# Altium integrated library ON Semi Signal Management Modems & Transceivers.IntLib: 97 symbols (part 5 of 5)
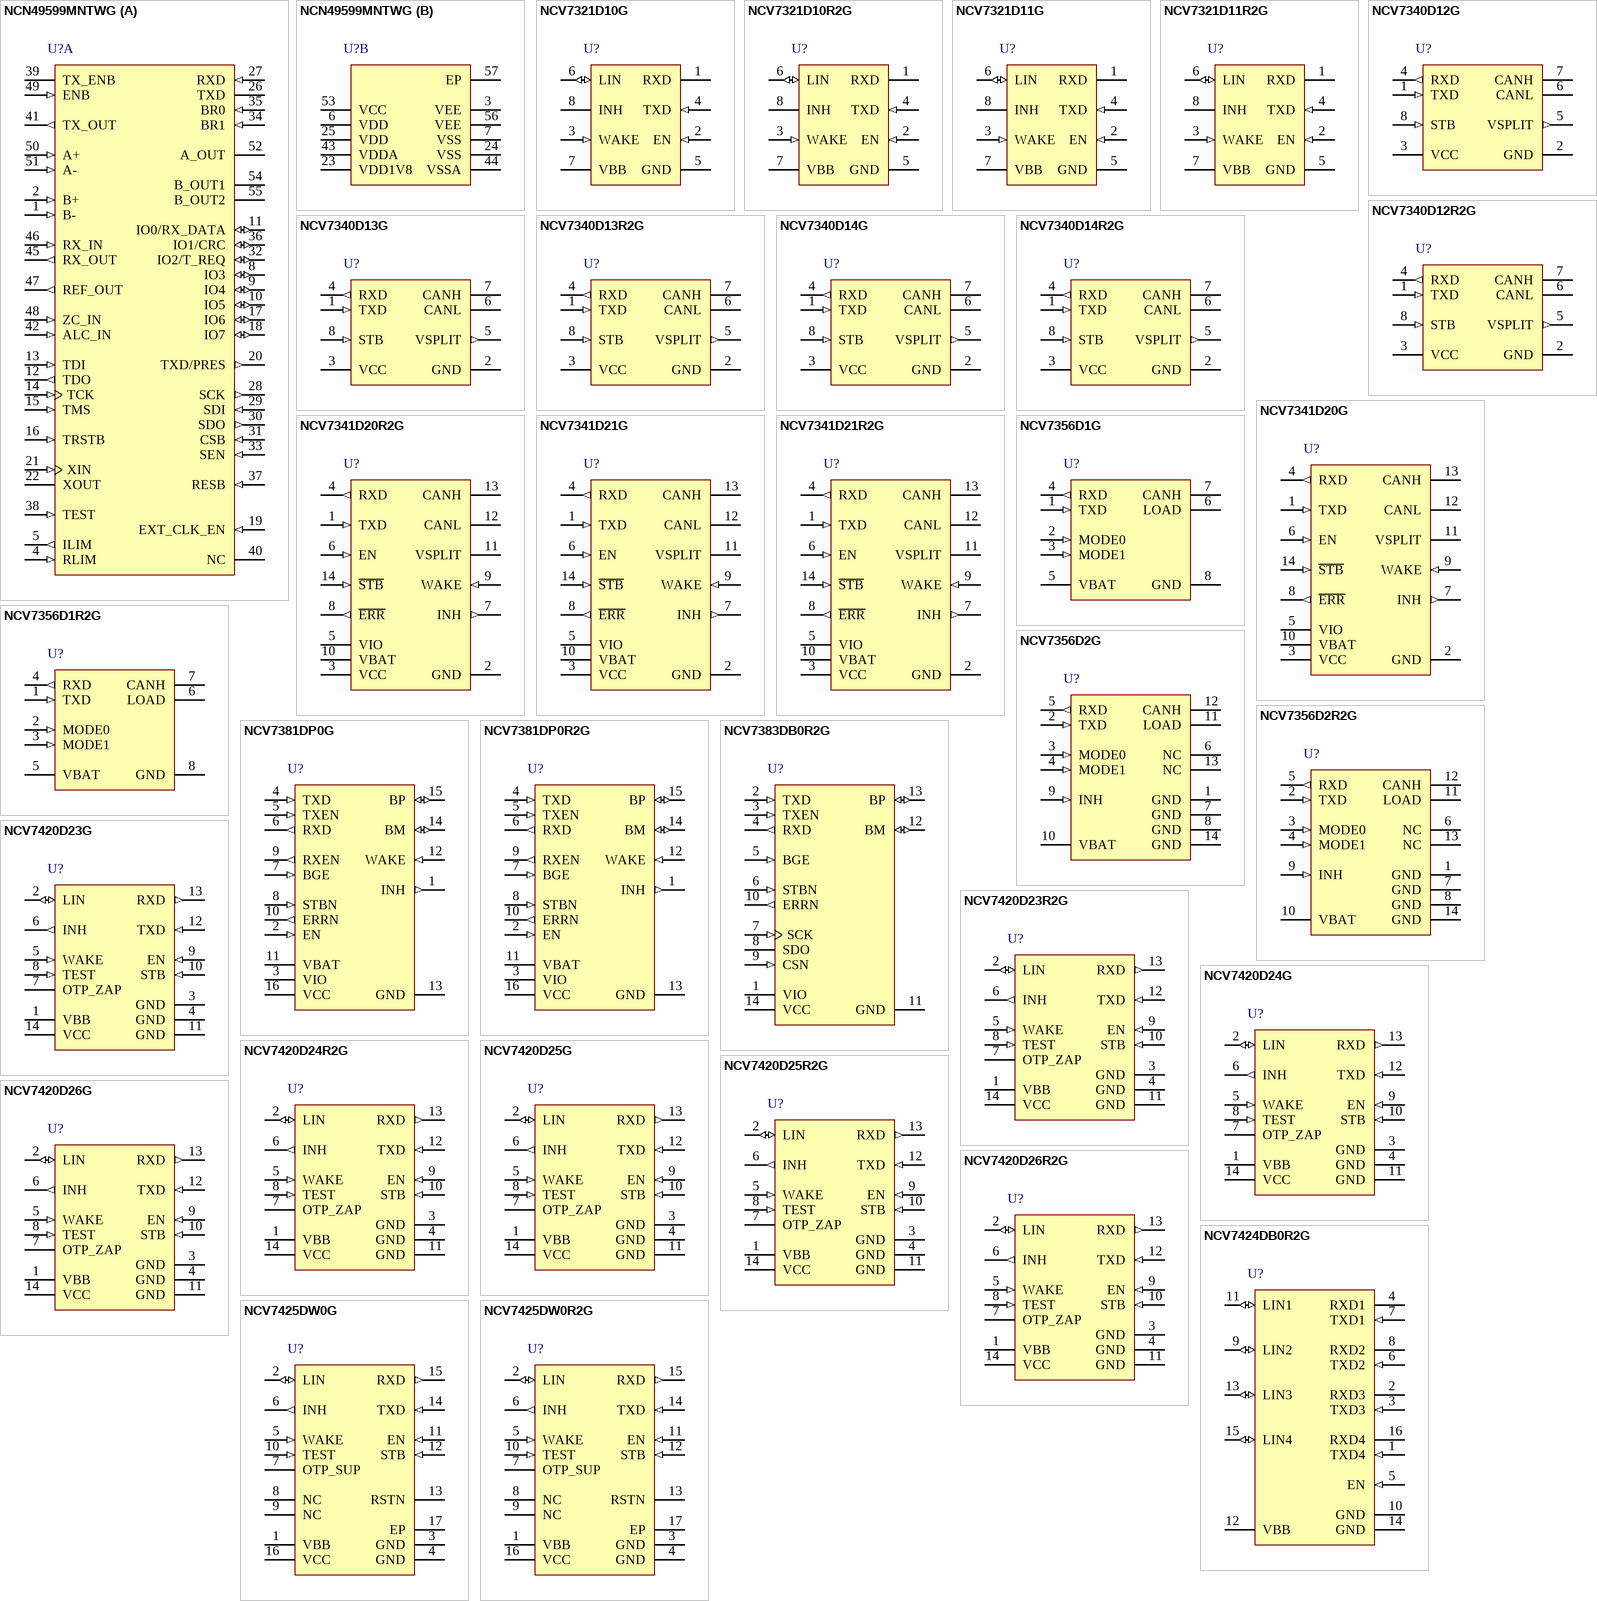
[diagram p8: symbols NCN49599MNTWG to NCV7425DW0R2G]

## NCV7420D26G
designator U?
LIN Transceiver with 3.3 V or 5 V Voltage Regulator, -40 to 125 degC, 14-Pin SOIC, Pb-Free, Tube; Manufacturer: On Semiconductor; PartNumber: NCV7420D26G; Data Rate: 20 kbaud; Number of Drivers: 1; DatasheetVersion: Rev. 8; PackageVersion: Rev. A, 08/2008; PackageReference: SOIC-14-751AP-01; PackageDescription: 14-Pin Small Outline Integrated Circuit, Body 8.65 x 3.9 mm, Pitch 1.27 mm; Supplier 1: Digi-Key; Supplier Part Number 1: NCV7420D26G-ND; Supplier 2: Mouser; Supplier Part Number 2: 863-NCV7420D26G; Data Transmission Standard: LIN; Number of Receivers: 1; Packing: Tube; RoHS: TRUE; Mounting Technology: Surface Mount; ComponentLink1Description: Manufacturer URL; ComponentLink1URL: http://www.onsemi.com/; ComponentLink2Description: Datasheet; ComponentLink2URL: http://www.onsemi.com/pub_link/Collateral/NCV7420-D.PDF; ComponentLink3Description: Package Specification; ComponentLink3URL: http://www.onsemi.com/pub_link/Collateral/751AP.PDF
footprint ONSC-SOIC-14-751AP-01_N (SOIC, 14-Leads, Body 8.7x4mm, Pitch 1.27mm, IPC Medium Density)
footprint ONSC-SOIC-14-751AP-01_L (SOIC, 14-Leads, Body 8.7x4mm, Pitch 1.27mm, IPC High Density)
footprint ONSC-SOIC-14-751AP-01_M (SOIC, 14-Leads, Body 8.7x4mm, Pitch 1.27mm, IPC Low Density)
pins: 1 VBB (power) "Battery supply input", 2 LIN (io) "LIN bus output/input", 3 GND (power) "Ground", 4 GND (power) "Ground", 5 WAKE (in) "High voltage digital input pin to switch the part from sleep? to standby mode", 6 INH (out) "Inhibit output", 7 OTP_ZAP "Supply for programming of trimming bits at factory testing, should be grounded in the application", 8 TEST (in) "Digital input for factory testing, should be grounded in the application", 9 EN (in) "Enable input, transceiver in normal operation mode when high", 10 STB (in) "Standby mode control input", 11 GND (power) "Ground", 12 TXD (in) "Transmit data input, low in dominant state", 13 RXD (out) "Receive data output; low in dominant state; push?pull output", 14 VCC (power) "Supply voltage (output)"

## NCV7420D26R2G
designator U?
LIN Transceiver with 3.3 V or 5 V Voltage Regulator, -40 to 125 degC, 14-Pin SOIC, Pb-Free, Tape and Reel; Manufacturer: On Semiconductor; PartNumber: NCV7420D26R2G; Data Rate: 20 kbaud; Number of Drivers: 1; DatasheetVersion: Rev. 8; PackageVersion: Rev. A, 08/2008; PackageReference: SOIC-14-751AP-01; PackageDescription: 14-Pin Small Outline Integrated Circuit, Body 8.65 x 3.9 mm, Pitch 1.27 mm; Supplier 1: Digi-Key; Supplier Part Number 1: NCV7420D26R2G-ND; Supplier 2: Newark; Supplier Part Number 2: 24T3435; Supplier 3: Mouser; Supplier Part Number 3: 863-NCV7420D26R2G; Data Transmission Standard: LIN; Number of Receivers: 1; Packing: Tape and Reel; RoHS: TRUE; Mounting Technology: Surface Mount; ComponentLink1Description: Manufacturer URL; ComponentLink1URL: http://www.onsemi.com/; ComponentLink2Description: Datasheet; ComponentLink2URL: http://www.onsemi.com/pub_link/Collateral/NCV7420-D.PDF; ComponentLink3Description: Package Specification; ComponentLink3URL: http://www.onsemi.com/pub_link/Collateral/751AP.PDF
footprint ONSC-SOIC-14-751AP-01_N (SOIC, 14-Leads, Body 8.7x4mm, Pitch 1.27mm, IPC Medium Density)
footprint ONSC-SOIC-14-751AP-01_L (SOIC, 14-Leads, Body 8.7x4mm, Pitch 1.27mm, IPC High Density)
footprint ONSC-SOIC-14-751AP-01_M (SOIC, 14-Leads, Body 8.7x4mm, Pitch 1.27mm, IPC Low Density)
pins: 1 VBB (power) "Battery supply input", 2 LIN (io) "LIN bus output/input", 3 GND (power) "Ground", 4 GND (power) "Ground", 5 WAKE (in) "High voltage digital input pin to switch the part from sleep? to standby mode", 6 INH (out) "Inhibit output", 7 OTP_ZAP "Supply for programming of trimming bits at factory testing, should be grounded in the application", 8 TEST (in) "Digital input for factory testing, should be grounded in the application", 9 EN (in) "Enable input, transceiver in normal operation mode when high", 10 STB (in) "Standby mode control input", 11 GND (power) "Ground", 12 TXD (in) "Transmit data input, low in dominant state", 13 RXD (out) "Receive data output; low in dominant state; push?pull output", 14 VCC (power) "Supply voltage (output)"

## NCV7424DB0R2G
designator U?
Four Channels LIN Transceiver, -40 to 125 degC, 16-Pin TSSOP, Pb-Free, Tape and Reel; Manufacturer: On Semiconductor; PartNumber: NCV7424DB0R2G; Data Rate: 20 kbaud; Number of Drivers: 4; DatasheetVersion: Rev. 0; PackageVersion: Rev. B, 10/2006; PackageReference: TSSOP-16-948F-01; PackageDescription: 16-Pin Small Outline Package, Body 5 x 4.4 mm, Pitch 0.65 mm; Supplier 1: Digi-Key; Supplier Part Number 1: NCV7424DB0R2GOSTR-ND; Supplier 2: Digi-Key; Supplier Part Number 2: NCV7424DB0R2GOSCT-ND; Supplier 3: Digi-Key; Supplier Part Number 3: NCV7424DB0R2GOSDKR-ND; Supplier 4: Farnell; Supplier Part Number 4: 2382436; Supplier 5: Newark; Supplier Part Number 5: 37X6692; Supplier 6: Newark; Supplier Part Number 6: 11X3611; Supplier 7: Mouser; Supplier Part Number 7: 863-NCV7424DB0R2G; Data Transmission Standard: LIN; Number of Receivers: 4; Packing: Tape and Reel; RoHS: TRUE; Mounting Technology: Surface Mount; ComponentLink1Description: Manufacturer URL; ComponentLink1URL: http://www.onsemi.com/; ComponentLink2Description: Datasheet; ComponentLink2URL: http://www.onsemi.com/pub_link/Collateral/NCV7424-D.PDF; ComponentLink3Description: Package Specification; ComponentLink3URL: http://www.onsemi.com/pub_link/Collateral/948F-01.PDF
footprint ONSC-TSSOP-16-948F-01_V (SOP, 16-Leads, Body 5.1x4.5mm, Pitch 0.65mm)
pins: 1 TXD4 (in) "Transmit Data Input, Low for Dominant State; Pull-up to internal supply guaranteed above pin input threshold", 2 RXD3 (hiz) "Receive Data Output; Low in Dominant State", 3 TXD3 (in) "Transmit Data Input, Low for Dominant State; Pull-up to internal supply guaranteed above pin input threshold", 4 RXD1 (hiz) "Receive Data Output; Low in Dominant State", 5 EN (in) "Enable Input, Transceiver in Normal Operation Mode when High, Pull-down Resistor to GND", 6 TXD2 (in) "Transmit Data Input, Low for Dominant State; Pull-up to internal supply guaranteed above pin input threshold", 7 TXD1 (in) "Transmit Data Input, Low for Dominant State; Pull-up to internal supply guaranteed above pin input threshold", 8 RXD2 (hiz) "Receive Data Output; Low in Dominant State", 9 LIN2 (io) "LIN Bus Output/Input", 10 GND (power) "Ground", 11 LIN1 (io) "LIN Bus Output/Input", 12 VBB (power) "Battery Supply Input", 13 LIN3 (io) "LIN Bus Output/Input", 14 GND (power) "Ground", 15 LIN4 (io) "LIN Bus Output/Input", 16 RXD4 (hiz) "Receive Data Output; Low in Dominant State"

## NCV7425DW0G
designator U?
LIN Transceiver with Voltage Regulator and Reset Pin, -40 to 125 degC, 16-Pin SOIC, Pb-Free, Tube; Manufacturer: On Semiconductor; PartNumber: NCV7425DW0G; Data Rate: 20 kbaud; Number of Drivers: 1; DatasheetVersion: Rev. 2; PackageVersion: Rev. A, 03/2008; PackageReference: SOIC-16-751AG-01; PackageDescription: 16-Pin Small Outline Integrated Circuit, Body 10.3 x 7.5 mm, Pitch 1.27 mm; Supplier 1: Digi-Key; Supplier Part Number 1: NCV7425DW0G-ND; Supplier 2: Mouser; Supplier Part Number 2: 863-NCV7425DW0G; Data Transmission Standard: LIN; Number of Receivers: 1; Packing: Tube; RoHS: TRUE; Mounting Technology: Surface Mount; ComponentLink1Description: Manufacturer URL; ComponentLink1URL: http://www.onsemi.com/; ComponentLink2Description: Datasheet; ComponentLink2URL: http://www.onsemi.com/pub_link/Collateral/NCV7425-D.PDF; ComponentLink3Description: Package Specification; ComponentLink3URL: http://www.onsemi.com/pub_link/Collateral/751AG.PDF
footprint ONSC-SOIC-16-751AG-01_V (SOIC, 16-Leads, Body 10.45x7.6mm, Pitch 1.27mm, Thermal Pad 5.08x3.81mm)
pins: 1 VBB (power) "Battery supply input", 2 LIN (io) "LIN bus output/input", 3 GND (power) "Ground", 4 GND (power) "Ground", 5 WAKE (in) "High voltage digital input pin to switch the part from sleep- to standby mode", 6 INH (out) "Inhibit output", 7 OTP_SUP "Supply for programming of trimming bits at factory testing, needs to be grounded in the application", 8 NC "not connected", 9 NC "not connected", 10 TEST (in) "Digital input for factory testing, needs to be grounded in the application", 11 EN (in) "Enable input for mode control", 12 STB (in) "Standby mode control input", 13 RSTN (oc) "Reset output; open?drain output with an on-chip pull-up resistor", 14 TXD (in) "Transmit data input, Low in dominant state", 15 RXD (out) "Receive data output; Low in dominant state; push-pull output", 16 VCC (power) "Voltage regulator output", 17 EP

## NCV7425DW0R2G
designator U?
LIN Transceiver with Voltage Regulator and Reset Pin, -40 to 125 degC, 16-Pin SOIC, Pb-Free, Tape and Reel; Manufacturer: On Semiconductor; PartNumber: NCV7425DW0R2G; Data Rate: 20 kbaud; Number of Drivers: 1; DatasheetVersion: Rev. 2; PackageVersion: Rev. A, 03/2008; PackageReference: SOIC-16-751AG-01; PackageDescription: 16-Pin Small Outline Integrated Circuit, Body 10.3 x 7.5 mm, Pitch 1.27 mm; Supplier 1: Digi-Key; Supplier Part Number 1: NCV7425DW0R2G-ND; Supplier 2: Mouser; Supplier Part Number 2: 863-NCV7425DW0R2G; Data Transmission Standard: LIN; Number of Receivers: 1; Packing: Tape and Reel; RoHS: TRUE; Mounting Technology: Surface Mount; ComponentLink1Description: Manufacturer URL; ComponentLink1URL: http://www.onsemi.com/; ComponentLink2Description: Datasheet; ComponentLink2URL: http://www.onsemi.com/pub_link/Collateral/NCV7425-D.PDF; ComponentLink3Description: Package Specification; ComponentLink3URL: http://www.onsemi.com/pub_link/Collateral/751AG.PDF
footprint ONSC-SOIC-16-751AG-01_V (SOIC, 16-Leads, Body 10.45x7.6mm, Pitch 1.27mm, Thermal Pad 5.08x3.81mm)
pins: 1 VBB (power) "Battery supply input", 2 LIN (io) "LIN bus output/input", 3 GND (power) "Ground", 4 GND (power) "Ground", 5 WAKE (in) "High voltage digital input pin to switch the part from sleep- to standby mode", 6 INH (out) "Inhibit output", 7 OTP_SUP "Supply for programming of trimming bits at factory testing, needs to be grounded in the application", 8 NC "not connected", 9 NC "not connected", 10 TEST (in) "Digital input for factory testing, needs to be grounded in the application", 11 EN (in) "Enable input for mode control", 12 STB (in) "Standby mode control input", 13 RSTN (oc) "Reset output; open?drain output with an on-chip pull-up resistor", 14 TXD (in) "Transmit data input, Low in dominant state", 15 RXD (out) "Receive data output; Low in dominant state; push-pull output", 16 VCC (power) "Voltage regulator output", 17 EP

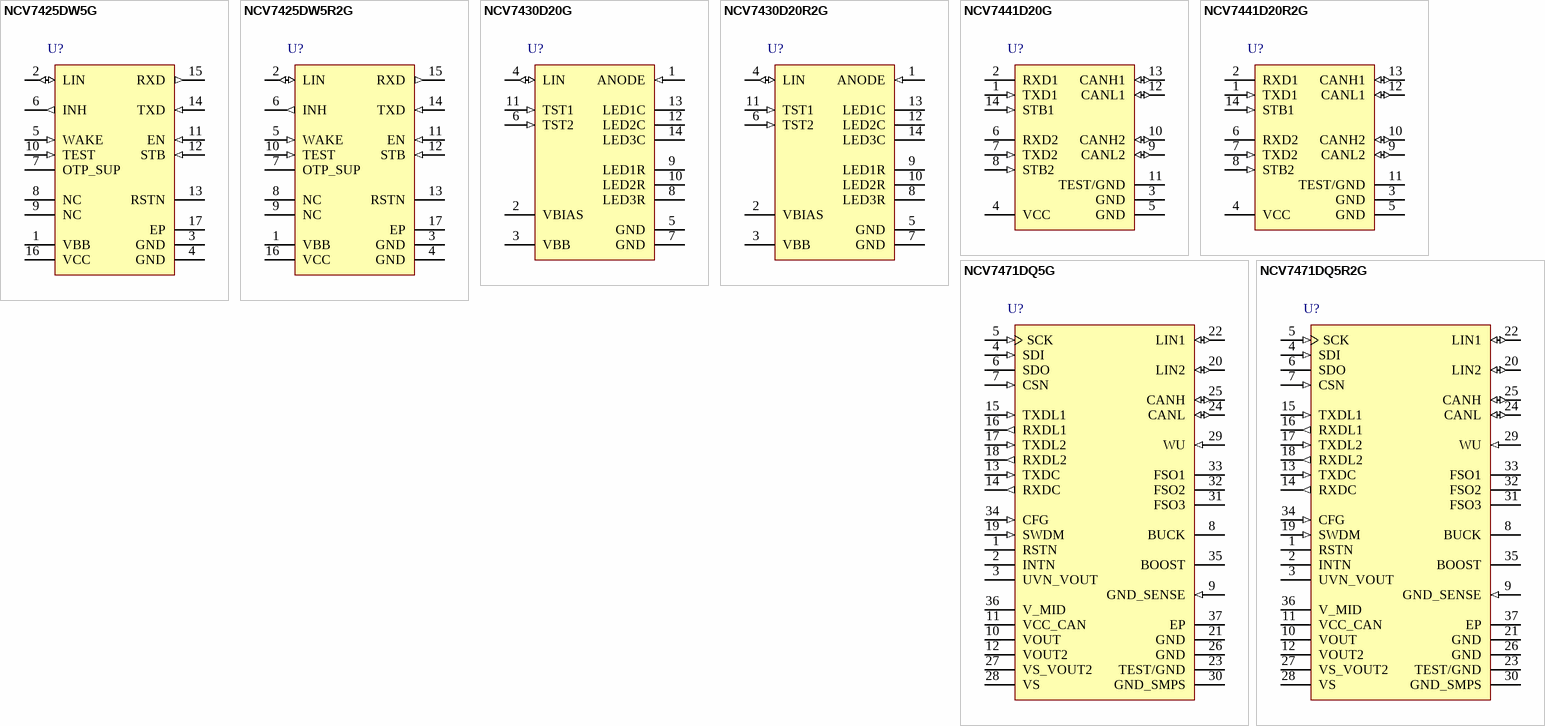
[diagram p4: symbols NCV7425DW5G to NCV7471DQ5R2G]

## NCV7425DW5G
designator U?
LIN Transceiver with Voltage Regulator and Reset Pin, -40 to 125 degC, 16-Pin SOIC, Pb-Free, Tube; Manufacturer: On Semiconductor; PartNumber: NCV7425DW5G; Data Rate: 20 kbaud; Number of Drivers: 1; DatasheetVersion: Rev. 2; PackageVersion: Rev. A, 03/2008; PackageReference: SOIC-16-751AG-01; PackageDescription: 16-Pin Small Outline Integrated Circuit, Body 10.3 x 7.5 mm, Pitch 1.27 mm; Supplier 1: Digi-Key; Supplier Part Number 1: NCV7425DW5G-ND; Supplier 2: Mouser; Supplier Part Number 2: 863-NCV7425DW5G; Data Transmission Standard: LIN; Number of Receivers: 1; Packing: Tube; RoHS: TRUE; Mounting Technology: Surface Mount; ComponentLink1Description: Manufacturer URL; ComponentLink1URL: http://www.onsemi.com/; ComponentLink2Description: Datasheet; ComponentLink2URL: http://www.onsemi.com/pub_link/Collateral/NCV7425-D.PDF; ComponentLink3Description: Package Specification; ComponentLink3URL: http://www.onsemi.com/pub_link/Collateral/751AG.PDF
footprint ONSC-SOIC-16-751AG-01_V (SOIC, 16-Leads, Body 10.45x7.6mm, Pitch 1.27mm, Thermal Pad 5.08x3.81mm)
pins: 1 VBB (power) "Battery supply input", 2 LIN (io) "LIN bus output/input", 3 GND (power) "Ground", 4 GND (power) "Ground", 5 WAKE (in) "High voltage digital input pin to switch the part from sleep- to standby mode", 6 INH (out) "Inhibit output", 7 OTP_SUP "Supply for programming of trimming bits at factory testing, needs to be grounded in the application", 8 NC "not connected", 9 NC "not connected", 10 TEST (in) "Digital input for factory testing, needs to be grounded in the application", 11 EN (in) "Enable input for mode control", 12 STB (in) "Standby mode control input", 13 RSTN (oc) "Reset output; open?drain output with an on-chip pull-up resistor", 14 TXD (in) "Transmit data input, Low in dominant state", 15 RXD (out) "Receive data output; Low in dominant state; push-pull output", 16 VCC (power) "Voltage regulator output", 17 EP

## NCV7425DW5R2G
designator U?
LIN Transceiver with Voltage Regulator and Reset Pin, -40 to 125 degC, 16-Pin SOIC, Pb-Free, Tape and Reel; Manufacturer: On Semiconductor; PartNumber: NCV7425DW5R2G; Data Rate: 20 kbaud; Number of Drivers: 1; DatasheetVersion: Rev. 2; PackageVersion: Rev. A, 03/2008; PackageReference: SOIC-16-751AG-01; PackageDescription: 16-Pin Small Outline Integrated Circuit, Body 10.3 x 7.5 mm, Pitch 1.27 mm; Supplier 1: Digi-Key; Supplier Part Number 1: NCV7425DW5R2G-ND; Supplier 2: Mouser; Supplier Part Number 2: 863-NCV7425DW5R2G; Data Transmission Standard: LIN; Number of Receivers: 1; Packing: Tape and Reel; RoHS: TRUE; Mounting Technology: Surface Mount; ComponentLink1Description: Manufacturer URL; ComponentLink1URL: http://www.onsemi.com/; ComponentLink2Description: Datasheet; ComponentLink2URL: http://www.onsemi.com/pub_link/Collateral/NCV7425-D.PDF; ComponentLink3Description: Package Specification; ComponentLink3URL: http://www.onsemi.com/pub_link/Collateral/751AG.PDF
footprint ONSC-SOIC-16-751AG-01_V (SOIC, 16-Leads, Body 10.45x7.6mm, Pitch 1.27mm, Thermal Pad 5.08x3.81mm)
pins: 1 VBB (power) "Battery supply input", 2 LIN (io) "LIN bus output/input", 3 GND (power) "Ground", 4 GND (power) "Ground", 5 WAKE (in) "High voltage digital input pin to switch the part from sleep- to standby mode", 6 INH (out) "Inhibit output", 7 OTP_SUP "Supply for programming of trimming bits at factory testing, needs to be grounded in the application", 8 NC "not connected", 9 NC "not connected", 10 TEST (in) "Digital input for factory testing, needs to be grounded in the application", 11 EN (in) "Enable input for mode control", 12 STB (in) "Standby mode control input", 13 RSTN (oc) "Reset output; open?drain output with an on-chip pull-up resistor", 14 TXD (in) "Transmit data input, Low in dominant state", 15 RXD (out) "Receive data output; Low in dominant state; push-pull output", 16 VCC (power) "Voltage regulator output", 17 EP

## NCV7430D20G
designator U?
Automotive LIN RGB LED Driver, 5.5 to 18 V, -40 to 125 degC, 14-Pin SOIC, Pb-Free, Tube; Manufacturer: On Semiconductor; PartNumber: NCV7430D20G; Number of Drivers: 3; Number of Receivers: 1; VCC Max (V): 18; VCC Min (V): 5.5; DatasheetVersion: Rev. 7; PackageVersion: Rev. K, 05/2011; PackageReference: SOIC-14-751A-03; PackageDescription: 14-Pin Small Outline Integrated Circuit, Body 8.65 x 3.9 mm, Pitch 1.27 mm; Data Transmission Standard: LIN; Packing: Tube; RoHS: TRUE; Mounting Technology: Surface Mount; ComponentLink1Description: Manufacturer URL; ComponentLink1URL: http://www.onsemi.com/; ComponentLink2Description: Datasheet; ComponentLink2URL: http://www.onsemi.com/pub_link/Collateral/NCV7430-D.PDF; ComponentLink3Description: Package Specification; ComponentLink3URL: http://www.onsemi.com/pub_link/Collateral/751A-03.PDF
footprint ONSC-SOIC-14-751A-03_V (SOIC, 14-Leads, Body 8.75x4mm, Pitch 1.27mm)
pins: 1 ANODE (in) "Anode input for LED fault detection", 2 VBIAS "Bias output for ballast transistor", 3 VBB (power) "VBB (14 V) Supply Voltage", 4 LIN (io) "LIN-bus connection", 5 GND (power) "Supply GND", 6 TST2 (in) "Test pin (ground pin)", 7 GND (power) "Supply GND", 8 LED3R "Current program resistor to ground for LED3C", 9 LED1R "Current program resistor to ground for LED1C", 10 LED2R "Current program resistor to ground for LED2C", 11 TST1 (in) "Test pin (float pin)", 12 LED2C (power) "Channel 2 regulated current output to LED cathode", 13 LED1C (power) "Channel 1 regulated current output to LED cathode", 14 LED3C (power) "Channel 3 regulated current output to LED cathode"

## NCV7430D20R2G
designator U?
Automotive LIN RGB LED Driver, 5.5 to 18 V, -40 to 125 degC, 14-Pin SOIC, Pb-Free, Tape and Reel; Manufacturer: On Semiconductor; PartNumber: NCV7430D20R2G; Number of Drivers: 3; Number of Receivers: 1; VCC Max (V): 18; VCC Min (V): 5.5; DatasheetVersion: Rev. 7; PackageVersion: Rev. K, 05/2011; PackageReference: SOIC-14-751A-03; PackageDescription: 14-Pin Small Outline Integrated Circuit, Body 8.65 x 3.9 mm, Pitch 1.27 mm; Supplier 1: Digi-Key; Supplier Part Number 1: NCV7430D20R2G-ND; Supplier 2: Newark; Supplier Part Number 2: 72W2245; Supplier 3: Mouser; Supplier Part Number 3: 863-NCV7430D20R2G; Data Transmission Standard: LIN; Packing: Tape and Reel; RoHS: TRUE; Mounting Technology: Surface Mount; ComponentLink1Description: Manufacturer URL; ComponentLink1URL: http://www.onsemi.com/; ComponentLink2Description: Datasheet; ComponentLink2URL: http://www.onsemi.com/pub_link/Collateral/NCV7430-D.PDF; ComponentLink3Description: Package Specification; ComponentLink3URL: http://www.onsemi.com/pub_link/Collateral/751A-03.PDF
footprint ONSC-SOIC-14-751A-03_V (SOIC, 14-Leads, Body 8.75x4mm, Pitch 1.27mm)
pins: 1 ANODE (in) "Anode input for LED fault detection", 2 VBIAS "Bias output for ballast transistor", 3 VBB (power) "VBB (14 V) Supply Voltage", 4 LIN (io) "LIN-bus connection", 5 GND (power) "Supply GND", 6 TST2 (in) "Test pin (ground pin)", 7 GND (power) "Supply GND", 8 LED3R "Current program resistor to ground for LED3C", 9 LED1R "Current program resistor to ground for LED1C", 10 LED2R "Current program resistor to ground for LED2C", 11 TST1 (in) "Test pin (float pin)", 12 LED2C (power) "Channel 2 regulated current output to LED cathode", 13 LED1C (power) "Channel 1 regulated current output to LED cathode", 14 LED3C (power) "Channel 3 regulated current output to LED cathode"

## NCV7441D20G
designator U?
Dual High Speed Low Power CAN Transceiver, 4.75 to 5.25 V, -40 to 125 degC, 14-Pin SOIC, Pb-Free, Tube; Manufacturer: On Semiconductor; PartNumber: NCV7441D20G; Data Rate: 1 Mb/s; Number of Drivers: 2; VCC Max (V): 5.25; VCC Min (V): 4.75; DatasheetVersion: Rev. 0; PackageVersion: Rev. K, 05/2011; PackageReference: SOIC-14-751A-03; PackageDescription: 14-Pin Small Outline Integrated Circuit, Body 8.65 x 3.9 mm, Pitch 1.27 mm; Supplier 1: Digi-Key; Supplier Part Number 1: NCV7441D20GOS-ND; Supplier 2: Mouser; Supplier Part Number 2: 863-NCV7441D20G; Data Transmission Standard: CAN; Number of Receivers: 2; Packing: Tube; RoHS: TRUE; Mounting Technology: Surface Mount; ComponentLink1Description: Manufacturer URL; ComponentLink1URL: http://www.onsemi.com/; ComponentLink2Description: Datasheet; ComponentLink2URL: http://www.onsemi.com/pub_link/Collateral/NCV7441-D.PDF; ComponentLink3Description: Package Specification; ComponentLink3URL: http://www.onsemi.com/pub_link/Collateral/751A-03.PDF
footprint ONSC-SOIC-14-751A-03_V (SOIC, 14-Leads, Body 8.75x4mm, Pitch 1.27mm)
pins: 1 TXD1 (in) "transmit data for the 1st CAN channel in normal mode; ignored in standby mode", 2 RXD1 (hiz) "received data from the 1st CAN channel in normal mode; 1st CAN channel remote wakeup indication in standby mode", 3 GND (power) "ground connection", 4 VCC (power) "5 V supply connection", 5 GND (power) "ground connection", 6 RXD2 (hiz) "received data from the 2nd CAN channel; 2nd CAN channel remote wakeup indication in standby mode", 7 TXD2 (in) "transmit data for the 2nd CAN channel", 8 STB2 (in) "mode control input for the 2nd CAN channel; STB2 = High puts the 2nd CAN channel into standby mode", 9 CANL2 (io) "CANL-wire connection of the 2nd CAN channel", 10 CANH2 (io) "CANH-wire connection of the 2nd CAN channel", 11 TEST/GND (power) "The pin is used for test purposes during device production. It’s recommended to connect to ground in the end-application.", 12 CANL1 (io) "CANL-wire connection of the 1st CAN channel", 13 CANH1 (io) "CANH-wire connection of the 1st CAN channel", 14 STB1 (in) "mode control input for the 1st CAN channel; STB1 = High puts the 1st CAN channel into standby mode"

## NCV7441D20R2G
designator U?
Dual High Speed Low Power CAN Transceiver, 4.75 to 5.25 V, -40 to 125 degC, 14-Pin SOIC, Pb-Free, Tape and Reel; Manufacturer: On Semiconductor; PartNumber: NCV7441D20R2G; Data Rate: 1 Mb/s; Number of Drivers: 2; VCC Max (V): 5.25; VCC Min (V): 4.75; DatasheetVersion: Rev. 0; PackageVersion: Rev. K, 05/2011; PackageReference: SOIC-14-751A-03; PackageDescription: 14-Pin Small Outline Integrated Circuit, Body 8.65 x 3.9 mm, Pitch 1.27 mm; Supplier 1: Digi-Key; Supplier Part Number 1: NCV7441D20R2GOSTR-ND; Supplier 2: Digi-Key; Supplier Part Number 2: NCV7441D20R2GOSCT-ND; Supplier 3: Digi-Key; Supplier Part Number 3: NCV7441D20R2GOSDKR-ND; Supplier 4: Mouser; Supplier Part Number 4: 863-NCV7441D20R2G; Data Transmission Standard: CAN; Number of Receivers: 2; Packing: Tape and Reel; RoHS: TRUE; Mounting Technology: Surface Mount; ComponentLink1Description: Manufacturer URL; ComponentLink1URL: http://www.onsemi.com/; ComponentLink2Description: Datasheet; ComponentLink2URL: http://www.onsemi.com/pub_link/Collateral/NCV7441-D.PDF; ComponentLink3Description: Package Specification; ComponentLink3URL: http://www.onsemi.com/pub_link/Collateral/751A-03.PDF
footprint ONSC-SOIC-14-751A-03_V (SOIC, 14-Leads, Body 8.75x4mm, Pitch 1.27mm)
pins: 1 TXD1 (in) "transmit data for the 1st CAN channel in normal mode; ignored in standby mode", 2 RXD1 (hiz) "received data from the 1st CAN channel in normal mode; 1st CAN channel remote wakeup indication in standby mode", 3 GND (power) "ground connection", 4 VCC (power) "5 V supply connection", 5 GND (power) "ground connection", 6 RXD2 (hiz) "received data from the 2nd CAN channel; 2nd CAN channel remote wakeup indication in standby mode", 7 TXD2 (in) "transmit data for the 2nd CAN channel", 8 STB2 (in) "mode control input for the 2nd CAN channel; STB2 = High puts the 2nd CAN channel into standby mode", 9 CANL2 (io) "CANL-wire connection of the 2nd CAN channel", 10 CANH2 (io) "CANH-wire connection of the 2nd CAN channel", 11 TEST/GND (power) "The pin is used for test purposes during device production. It’s recommended to connect to ground in the end-application.", 12 CANL1 (io) "CANL-wire connection of the 1st CAN channel", 13 CANH1 (io) "CANH-wire connection of the 1st CAN channel", 14 STB1 (in) "mode control input for the 1st CAN channel; STB1 = High puts the 1st CAN channel into standby mode"

## NCV7471DQ5G
designator U?
System Basis Chip with a High-Speed CAN, Two LINs and a Boost-Buck DC/DC Converter, 36-Pin SSOP, Pb-Free, Tube; Manufacturer: On Semiconductor; PartNumber: NCV7471DQ5G; Data Transmission Standard: CAN, LIN; Number of Receivers: 3; DatasheetVersion: Rev. 2; PackageVersion: Rev. O, 11/2009; PackageReference: SSOP-36-940AB-01; PackageDescription: 36-Pin Small Outline Package, Body 10.3 x 7.5 mm, Pitch 0.5 mm; Supplier 1: Mouser; Supplier Part Number 1: 863-NCV7471DQ5G; Packing: Tube; RoHS: TRUE; Mounting Technology: Surface Mount; ComponentLink1Description: Manufacturer URL; ComponentLink1URL: http://www.onsemi.com/; ComponentLink2Description: Datasheet; ComponentLink2URL: http://www.onsemi.com/pub_link/Collateral/NCV7471-D.PDF; ComponentLink3Description: Package Specification; ComponentLink3URL: http://www.onsemi.com/pub_link/Collateral/940AB.PDF
footprint ONSC-SSOP-36-940AB-01_V (SOP, 36-Leads, Body 10.3x7.5mm, Pitch 0.5mm, Thermal Pad 5.9x4.1mm)
pins: 1 RSTN (oc) "System reset", 2 INTN (oc) "Interrupt request to the MCU", 3 UVN_VOUT (oc) "VOUT under?voltage signal to the MCU", 4 SDI (in) "SPI data input", 5 SCK (in) "SPI clock input", 6 SDO (hiz) "SPI data output", 7 CSN (in) "SPI chip select input", 8 BUCK "Connection of Lbuck coil to the integrated serial switch", 9 GND_SENSE (in) "Ground sense for the internal circuitry (e.g. VOUT2 regulator)", 10 VOUT (power) "Feedback of the DC/DC converter output; main 5 V LV supply for the digital IO¡¯s", 11 VCC_CAN (power) "Core supply for the CAN transceiver", 12 VOUT2 (power) "Output of the 5 V/50 mA low?drop regulator for external loads", 13 TXDC (in) "Input of the data to be transmitted on CAN bus", 14 RXDC (out) "Output of data received from CAN bus", 15 TXDL1 (in) "Input of the data to be transmitted from LIN1 bus", 16 RXDL1 (out) "Output of data received on LIN1 bus", 17 TXDL2 (in) "Input of the data to be transmitted from LIN2 bus", 18 RXDL2 (out) "Output of data received on LIN2 bus", 19 SWDM (in) "Input to select the SW Development configuration", 20 LIN2 (io) "LIN2 bus line", 21 GND (power) "Ground connection", 22 LIN1 (io) "LIN1 bus line", 23 TEST/GND (power) "Test?mode entry pin for production testing; should be grounded in the application", 24 CANL (io) "CANL line of the CAN bus", 25 CANH (io) "CANH line of the CAN bus", 26 GND (power) "Ground connection", 27 VS_VOUT2 (power) "Separate line input for the VOUT2 low?drop regulator", 28 VS (power) "Line supply for the battery?related core blocks", 29 WU (in) "Input for monitoring of external contacts", 30 GND_SMPS (power) "Power ground connection for the DC/DC converter", 31 FSO3 (hiz) "Indication of a fail?safe event by rectangular signal of 100 Hz with 20% duty cycle; high?impedant in normal operation", 32 FSO2 (hiz) "Indication of a fail?safe event by rectangular signal of 1.25 Hz with 50% duty cycle; high?impedant in normal operation", 33 FSO1 (hiz) "Indication of a fail?safe event by static Low level; high?impedant in normal operation", 34 CFG (in) "Configuration of fail?safe behavior; in SW Development, CFG enables boost stage operation", 35 BOOST "Connection of Lboost coil to the integrated switch to ground.", 36 V_MID (power) "Intermediate point connecting the step?up and step?down stages of the DC/DC converter", 37 EP

## NCV7471DQ5R2G
designator U?
System Basis Chip with a High-Speed CAN, Two LINs and a Boost-Buck DC/DC Converter, 36-Pin SSOP, Pb-Free, Tape and Reel; Manufacturer: On Semiconductor; PartNumber: NCV7471DQ5R2G; Data Transmission Standard: CAN, LIN; Number of Receivers: 3; DatasheetVersion: Rev. 2; PackageVersion: Rev. O, 11/2009; PackageReference: SSOP-36-940AB-01; PackageDescription: 36-Pin Small Outline Package, Body 10.3 x 7.5 mm, Pitch 0.5 mm; Supplier 1: Newark; Supplier Part Number 1: 60W1737; Supplier 2: Mouser; Supplier Part Number 2: 863-NCV7471DQ5R2G; Packing: Tape and Reel; RoHS: TRUE; Mounting Technology: Surface Mount; ComponentLink1Description: Manufacturer URL; ComponentLink1URL: http://www.onsemi.com/; ComponentLink2Description: Datasheet; ComponentLink2URL: http://www.onsemi.com/pub_link/Collateral/NCV7471-D.PDF; ComponentLink3Description: Package Specification; ComponentLink3URL: http://www.onsemi.com/pub_link/Collateral/940AB.PDF
footprint ONSC-SSOP-36-940AB-01_V (SOP, 36-Leads, Body 10.3x7.5mm, Pitch 0.5mm, Thermal Pad 5.9x4.1mm)
pins: 1 RSTN (oc) "System reset", 2 INTN (oc) "Interrupt request to the MCU", 3 UVN_VOUT (oc) "VOUT under?voltage signal to the MCU", 4 SDI (in) "SPI data input", 5 SCK (in) "SPI clock input", 6 SDO (hiz) "SPI data output", 7 CSN (in) "SPI chip select input", 8 BUCK "Connection of Lbuck coil to the integrated serial switch", 9 GND_SENSE (in) "Ground sense for the internal circuitry (e.g. VOUT2 regulator)", 10 VOUT (power) "Feedback of the DC/DC converter output; main 5 V LV supply for the digital IO¡¯s", 11 VCC_CAN (power) "Core supply for the CAN transceiver", 12 VOUT2 (power) "Output of the 5 V/50 mA low?drop regulator for external loads", 13 TXDC (in) "Input of the data to be transmitted on CAN bus", 14 RXDC (out) "Output of data received from CAN bus", 15 TXDL1 (in) "Input of the data to be transmitted from LIN1 bus", 16 RXDL1 (out) "Output of data received on LIN1 bus", 17 TXDL2 (in) "Input of the data to be transmitted from LIN2 bus", 18 RXDL2 (out) "Output of data received on LIN2 bus", 19 SWDM (in) "Input to select the SW Development configuration", 20 LIN2 (io) "LIN2 bus line", 21 GND (power) "Ground connection", 22 LIN1 (io) "LIN1 bus line", 23 TEST/GND (power) "Test?mode entry pin for production testing; should be grounded in the application", 24 CANL (io) "CANL line of the CAN bus", 25 CANH (io) "CANH line of the CAN bus", 26 GND (power) "Ground connection", 27 VS_VOUT2 (power) "Separate line input for the VOUT2 low?drop regulator", 28 VS (power) "Line supply for the battery?related core blocks", 29 WU (in) "Input for monitoring of external contacts", 30 GND_SMPS (power) "Power ground connection for the DC/DC converter", 31 FSO3 (hiz) "Indication of a fail?safe event by rectangular signal of 100 Hz with 20% duty cycle; high?impedant in normal operation", 32 FSO2 (hiz) "Indication of a fail?safe event by rectangular signal of 1.25 Hz with 50% duty cycle; high?impedant in normal operation", 33 FSO1 (hiz) "Indication of a fail?safe event by static Low level; high?impedant in normal operation", 34 CFG (in) "Configuration of fail?safe behavior; in SW Development, CFG enables boost stage operation", 35 BOOST "Connection of Lboost coil to the integrated switch to ground.", 36 V_MID (power) "Intermediate point connecting the step?up and step?down stages of the DC/DC converter", 37 EP